# Altium schematic symbol library Molex.SchLib: 4 symbols
Pins are listed as number, name and electrical type; pins without a type are passive.

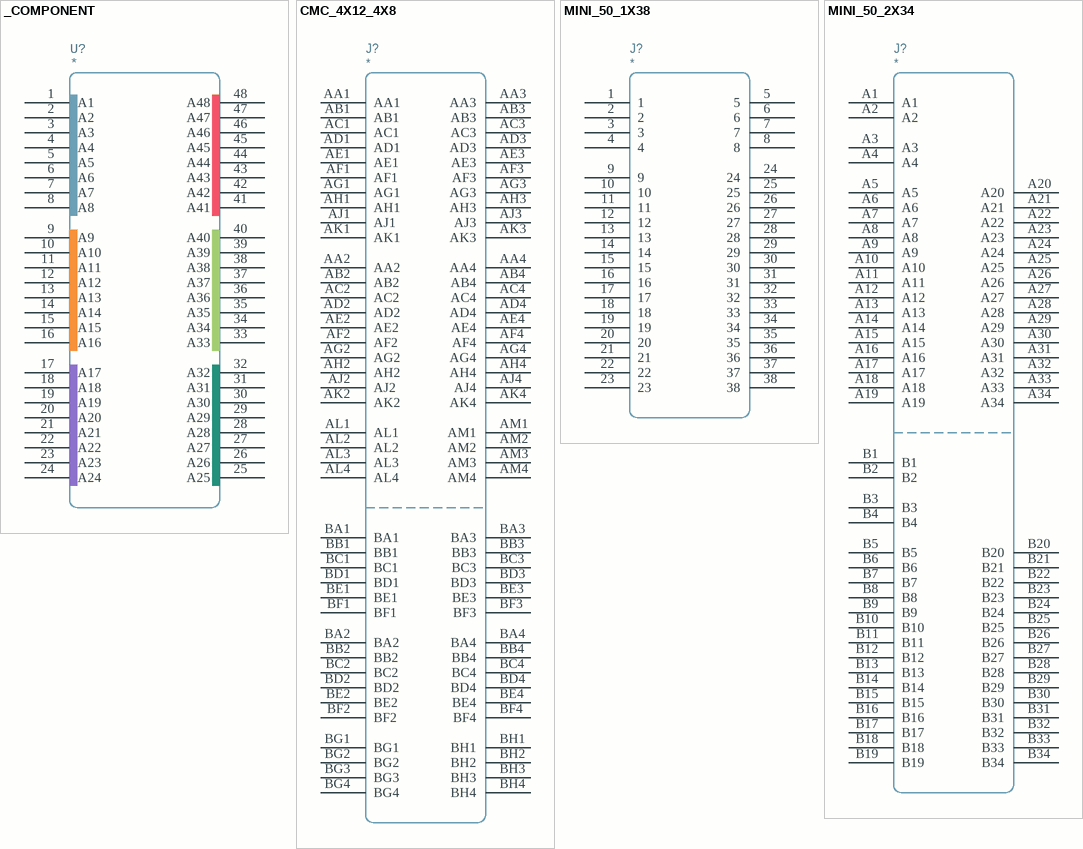
[diagram p0: symbols _COMPONENT to MINI_50_2X34]

## _COMPONENT
designator U?
pins: 1 A1, 2 A2, 3 A3, 4 A4, 5 A5, 6 A6, 7 A7, 8 A8, 9 A9, 10 A10, 11 A11, 12 A12, 13 A13, 14 A14, 15 A15, 16 A16, 17 A17, 18 A18, 19 A19, 20 A20, 21 A21, 22 A22, 23 A23, 24 A24, 25 A25, 26 A26, 27 A27, 28 A28, 29 A29, 30 A30, 31 A31, 32 A32, 33 A33, 34 A34, 35 A35, 36 A36, 37 A37, 38 A38, 39 A39, 40 A40, 41 A41, 42 A42, 43 A43, 44 A44, 45 A45, 46 A46, 47 A47, 48 A48

## CMC_4X12_4X8
designator J?
pins: AA1, AA2, AA3, AA4, AB1, AB2, AB3, AB4, AC1, AC2, AC3, AC4, AD1, AD2, AD3, AD4, AE1, AE2, AE3, AE4, AF1, AF2, AF3, AF4, AG1, AG2, AG3, AG4, AH1, AH2, AH3, AH4, AJ1, AJ2, AJ3, AJ4, AK1, AK2, AK3, AK4, AL1, AL2, AL3, AL4, AM1, AM2, AM3, AM4, BA1, BA2, BA3, BA4, BB1, BB2, BB3, BB4, BC1, BC2, BC3, BC4, BD1, BD2, BD3, BD4, BE1, BE2, BE3, BE4, BF1, BF2, BF3, BF4, BG1, BG2, BG3, BG4, BH1, BH2, BH3, BH4

## MINI_50_1X38
designator J?
pins: 1, 2, 3, 4, 5, 6, 7, 8, 9, 10, 11, 12, 13, 14, 15, 16, 17, 18, 19, 20, 21, 22, 23, 24, 25, 26, 27, 28, 29, 30, 31, 32, 33, 34, 35, 36, 37, 38

## MINI_50_2X34
designator J?
pins: A1, A2, A3, A4, A5, A6, A7, A8, A9, A10, A11, A12, A13, A14, A15, A16, A17, A18, A19, A20, A21, A22, A23, A24, A25, A26, A27, A28, A29, A30, A31, A32, A33, A34, B1, B2, B3, B4, B5, B6, B7, B8, B9, B10, B11, B12, B13, B14, B15, B16, B17, B18, B19, B20, B21, B22, B23, B24, B25, B26, B27, B28, B29, B30, B31, B32, B33, B34